# Altium footprint library VFD.PcbLib: 2 footprints
Each footprint in its own frame and in the unit in brackets; x right, y up, seen from the top. Pads: shape width x height; smd on the part's side, far side on the other; paste and mask are expansions set on the pad; w line width, h text height; cw(c..) or ccw(c..) is an arc to the next point about the centre after c.
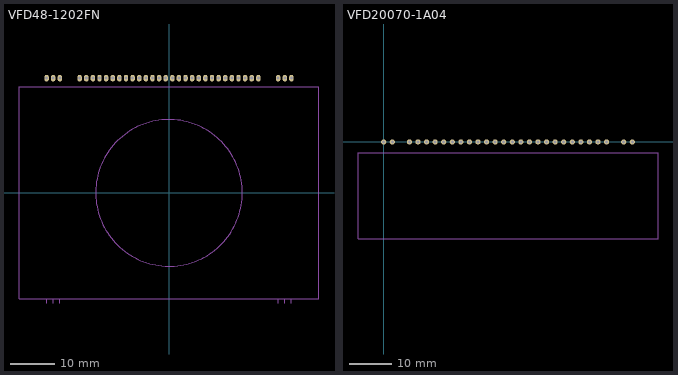
[diagram p0: the footprints below, top view; thin cyan lines are the x and y axes]

## VFD48-1202FN [mm]
pads (34):
  oval 1x1.5 hole 0.7: 1(-27.75,26) 2(-26.25,26) 3(-24.75,26) 4(-20.25,26) 5(-18.75,26) 6(-17.25,26) 7(-15.75,26) 8(-14.25,26) 9(-12.75,26) 10(-11.25,26) 11(-9.75,26) 12(-8.25,26) 13(-6.75,26) 14(-5.25,26) 15(-3.75,26) 16(-2.25,26) 17(-0.75,26) 18(0.75,26) 19(2.25,26) 20(3.75,26) 21(5.25,26) 22(6.75,26) 23(8.25,26) 24(9.75,26) 25(11.25,26) 26(12.75,26) 27(14.25,26) 28(15.75,26) 29(17.25,26) 30(18.75,26) 31(20.25,26) 32(24.75,26) 33(26.25,26) 34(27.75,26)
Mechanical 1:
  circle w0.254: c0,0 r16.625
  lines w0.254: -27.75,-25 -27.75,-24 ; -26.25,-25 -26.25,-24 ; -24.75,-25 -24.75,-24 ; 24.75,-25 24.75,-24 ; 26.25,-25 26.25,-24 ; 27.75,-25 27.75,-24 ; -34,-24 34,-24 34,24 -34,24 -34,-24
3D body: height 10, standoff 1.5, extent -34,-24 34,24

## VFD20070-1A04 [mm]
pads (28):
  round 1.2 hole 0.7: 1(0,0) 2(2,0) 4(6,0) 5(8,0) 6(10,0) 7(12,0) 8(14,0) 9(16,0) 10(18,0) 11(20,0) 12(22,0) 13(24,0) 14(26,0) 15(28,0) 16(30,0) 17(32,0) 18(34,0) 19(36,0) 20(38,0) 21(40,0) 22(42,0) 23(44,0) 24(46,0) 25(48,0) 26(50,0) 27(52,0) 29(56,0) 30(58,0)
Mechanical 1:
  lines w0.152: -6,-22.566 -6,-2.566 64,-2.566 64,-22.566 -6,-22.566